# EAGLE library part ROTSWITCH (library DashAndCAN library)
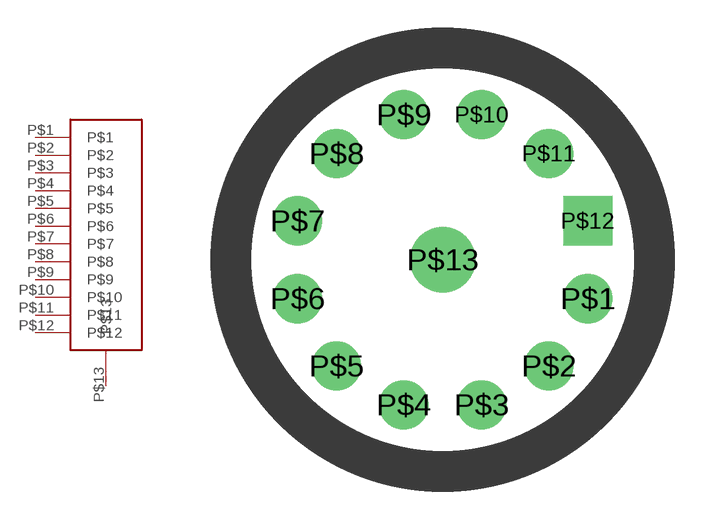
[diagram p5: symbol with the pads of ROTSWITCH; footprint ROTSWITCH]

Designator prefix -

## ROTSWITCH  [ROTSWITCH]
P$1  P$1
P$2  P$2
P$3  P$3
P$4  P$4
P$5  P$5
P$6  P$6
P$7  P$7
P$8  P$8
P$9  P$9
P$10  P$10
P$11  P$11
P$12  P$12
P$13  P$13

## Footprint ROTSWITCH (pad centres in mm)
drill 0.8 pad 1.524: P$1 4.49,-1.203; P$2 3.287,-3.287; P$3 1.203,-4.491; P$4 -1.203,-4.491; P$5 -3.287,-3.287; P$6 -4.491,-1.203; P$7 -4.49,1.203; P$8 -3.287,3.287; P$9 -1.203,4.49; P$10 1.203,4.49; P$11 3.287,3.287
drill 0.8 pad 1.524 square: P$12 4.49,1.203
drill 0.8 pad 2.032: P$13 0,0